# EAGLE library part 218-06_S (library switch-dil)
DIP SWITCH
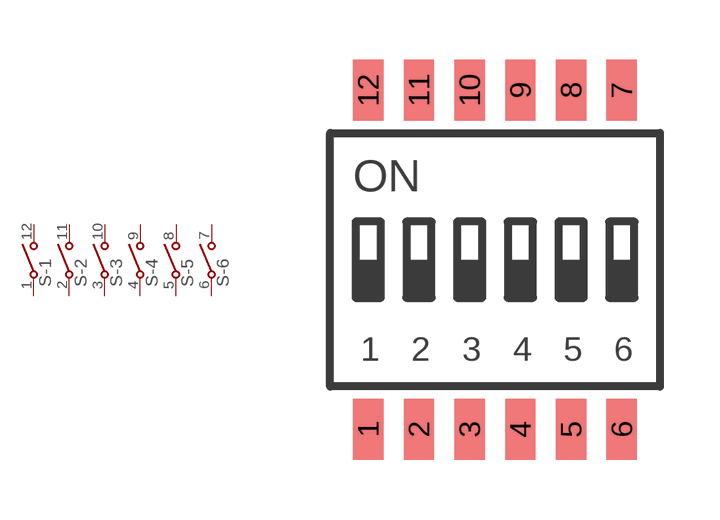
[diagram p79: symbol with the pads of 218-06; footprint 218-06]

Designator prefix S; gates -1=S -2=S -3=S -4=S -5=S -6=S

## 218-06_S  [218-06]
1  -1:1  pas
2  -2:1  pas
3  -3:1  pas
4  -4:1  pas
5  -5:1  pas
6  -6:1  pas
7  -6:2  pas
8  -5:2  pas
9  -4:2  pas
10  -3:2  pas
11  -2:2  pas
12  -1:2  pas

## Footprint 218-06 (pad centres in mm)
CTS SERIES 218LP - Gull Wing Terminal
smd 0.762 x 1.524: 1 -3.175,-4.245; 2 -1.905,-4.245; 3 -0.635,-4.245; 4 0.635,-4.245; 5 1.905,-4.245; 6 3.175,-4.245; 7 3.175,4.245; 8 1.905,4.245; 9 0.635,4.245; 10 -0.635,4.245; 11 -1.905,4.245; 12 -3.175,4.245